# Altium footprint library TPS628122GQWRWYRQ1.PcbLib: 1 footprints
Each footprint in its own frame and in the unit in brackets; x right, y up, seen from the top. Pads: shape width x height; smd on the part's side, far side on the other; paste and mask are expansions set on the pad; w line width, h text height; cw(c..) or ccw(c..) is an arc to the next point about the centre after c.
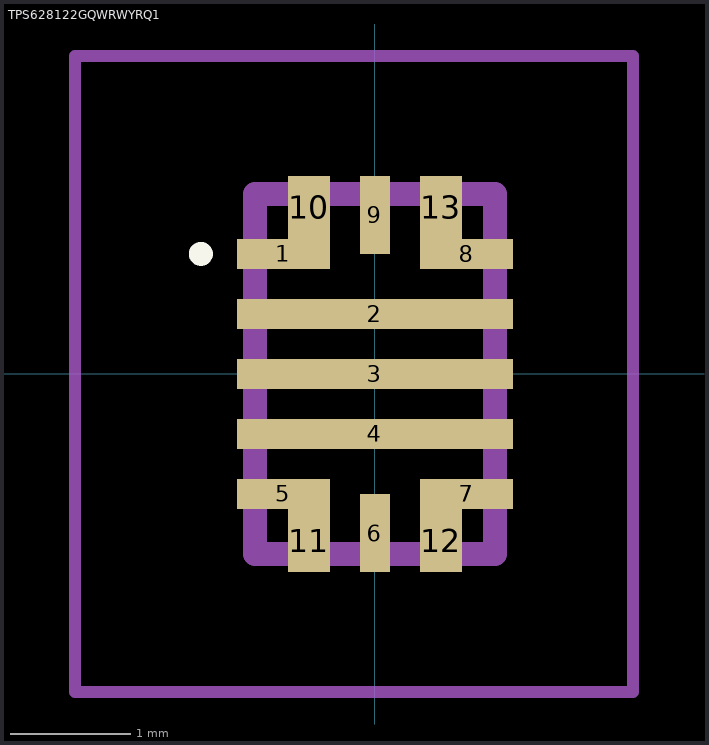
[diagram p0: the footprint, top view; thin cyan lines are the x and y axes]

## TPS628122GQWRWYRQ1 [mm]
pads (13):
  rect 0.775x0.25 smd: 1(-0.763,1) 5(-0.763,-1) 7(0.763,-1) 8(0.763,1)
  rect 2.3x0.25 smd: 2(0,0.5) 3(0,0) 4(0,-0.5)
  rect 0.25x0.65 smd: 6(0,-1.325) 9(0,1.325)
  rect 0.35x0.525 smd: 10(-0.55,1.388) 11(-0.55,-1.388) 12(0.55,-1.388) 13(0.55,1.388)
Top Overlay:
  lines w0.1: -1.5,1 cw(c-1.45,1) -1.4,1 ; -1.5,1 -1.5,1 ; -1.5,1 ccw(c-1.45,1) -1.4,1 ; -1.4,1 -1.4,1
Mechanical 15:
  lines w0.2: -1,-1.5 1,-1.5 1,1.5 -1,1.5 -1,-1.5
Mechanical 20:
  lines w0.1: -2.5,-2.651 2.151,-2.651 2.151,2.65 -2.5,2.65 -2.5,-2.651